# Altium schematic symbol library BeagleCore.Schlib: 1 symbol
Pins are listed as number, name and electrical type; pins without a type are passive.

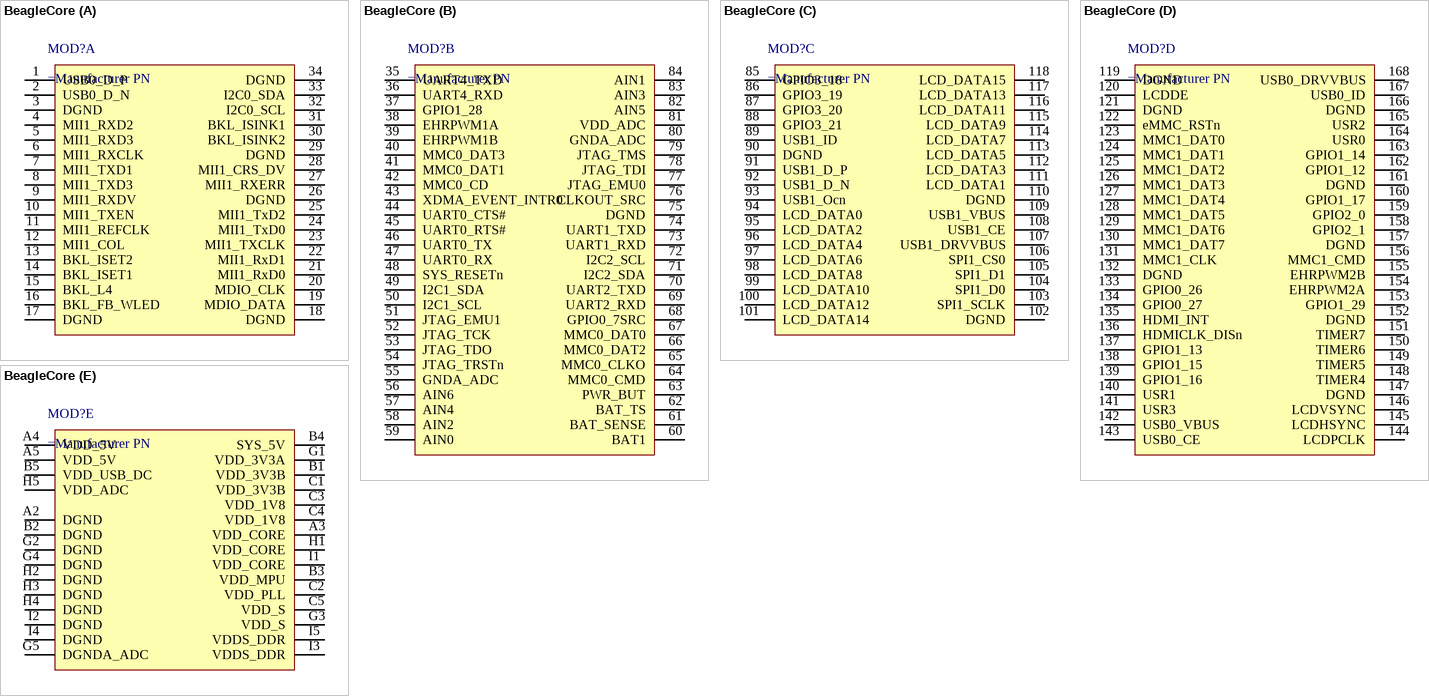
[diagram p0: symbol BeagleCore]

## BeagleCore
designator MOD?
BeagleCore SOM
part A pins: 1 USB0_D_P, 2 USB0_D_N, 3 DGND, 4 MII1_RXD2, 5 MII1_RXD3, 6 MII1_RXCLK, 7 MII1_TXD1, 8 MII1_TXD3, 9 MII1_RXDV, 10 MII1_TXEN, 11 MII1_REFCLK, 12 MII1_COL, 13 BKL_ISET2, 14 BKL_ISET1, 15 BKL_L4, 16 BKL_FB_WLED, 17 DGND, 18 DGND, 19 MDIO_DATA, 20 MDIO_CLK, 21 MII1_RxD0, 22 MII1_RxD1, 23 MII1_TXCLK, 24 MII1_TxD0, 25 MII1_TxD2, 26 DGND, 27 MII1_RXERR, 28 MII1_CRS_DV, 29 DGND, 30 BKL_ISINK2, 31 BKL_ISINK1, 32 I2C0_SCL, 33 I2C0_SDA, 34 DGND
part B pins: 35 UART4_TXD, 36 UART4_RXD, 37 GPIO1_28, 38 EHRPWM1A, 39 EHRPWM1B, 40 MMC0_DAT3, 41 MMC0_DAT1, 42 MMC0_CD, 43 XDMA_EVENT_INTR0, 44 UART0_CTS#, 45 UART0_RTS#, 46 UART0_TX, 47 UART0_RX, 48 SYS_RESETn, 49 I2C1_SDA, 50 I2C1_SCL, 51 JTAG_EMU1, 52 JTAG_TCK, 53 JTAG_TDO, 54 JTAG_TRSTn, 55 GNDA_ADC, 56 AIN6, 57 AIN4, 58 AIN2, 59 AIN0, 60 BAT1, 61 BAT_SENSE, 62 BAT_TS, 63 PWR_BUT, 64 MMC0_CMD, 65 MMC0_CLKO, 66 MMC0_DAT2, 67 MMC0_DAT0, 68 GPIO0_7SRC, 69 UART2_RXD, 70 UART2_TXD, 71 I2C2_SDA, 72 I2C2_SCL, 73 UART1_RXD, 74 UART1_TXD, 75 DGND, 76 CLKOUT_SRC, 77 JTAG_EMU0, 78 JTAG_TDI, 79 JTAG_TMS, 80 GNDA_ADC, 81 VDD_ADC, 82 AIN5, 83 AIN3, 84 AIN1
part C pins: 85 GPIO3_18, 86 GPIO3_19, 87 GPIO3_20, 88 GPIO3_21, 89 USB1_ID, 90 DGND, 91 USB1_D_P, 92 USB1_D_N, 93 USB1_Ocn, 94 LCD_DATA0, 95 LCD_DATA2, 96 LCD_DATA4, 97 LCD_DATA6, 98 LCD_DATA8, 99 LCD_DATA10, 100 LCD_DATA12, 101 LCD_DATA14, 102 DGND, 103 SPI1_SCLK, 104 SPI1_D0, 105 SPI1_D1, 106 SPI1_CS0, 107 USB1_DRVVBUS, 108 USB1_CE, 109 USB1_VBUS, 110 DGND, 111 LCD_DATA1, 112 LCD_DATA3, 113 LCD_DATA5, 114 LCD_DATA7, 115 LCD_DATA9, 116 LCD_DATA11, 117 LCD_DATA13, 118 LCD_DATA15
part D pins: 119 DGND, 120 LCDDE, 121 DGND, 122 eMMC_RSTn, 123 MMC1_DAT0, 124 MMC1_DAT1, 125 MMC1_DAT2, 126 MMC1_DAT3, 127 MMC1_DAT4, 128 MMC1_DAT5, 129 MMC1_DAT6, 130 MMC1_DAT7, 131 MMC1_CLK, 132 DGND, 133 GPIO0_26, 134 GPIO0_27, 135 HDMI_INT, 136 HDMICLK_DISn, 137 GPIO1_13, 138 GPIO1_15, 139 GPIO1_16, 140 USR1, 141 USR3, 142 USB0_VBUS, 143 USB0_CE, 144 LCDPCLK, 145 LCDHSYNC, 146 LCDVSYNC, 147 DGND, 148 TIMER4, 149 TIMER5, 150 TIMER6, 151 TIMER7, 152 DGND, 153 GPIO1_29, 154 EHRPWM2A, 155 EHRPWM2B, 156 MMC1_CMD, 157 DGND, 158 GPIO2_1, 159 GPIO2_0, 160 GPIO1_17, 161 DGND, 162 GPIO1_12, 163 GPIO1_14, 164 USR0, 165 USR2, 166 DGND, 167 USB0_ID, 168 USB0_DRVVBUS
part E pins: A2 DGND, A3 VDD_CORE, A4 VDD_5V, A5 VDD_5V, B1 VDD_3V3B, B2 DGND, B3 VDD_MPU, B4 SYS_5V, B5 VDD_USB_DC, C1 VDD_3V3B, C2 VDD_PLL, C3 VDD_1V8, C4 VDD_1V8, C5 VDD_S, G1 VDD_3V3A, G2 DGND, G3 VDD_S, G4 DGND, G5 DGNDA_ADC, H1 VDD_CORE, H2 DGND, H3 DGND, H4 DGND, H5 VDD_ADC, I1 VDD_CORE, I2 DGND, I3 VDDS_DDR, I4 DGND, I5 VDDS_DDR